# Altium footprint library MyLibrary.PcbLib: 5 footprints
Each footprint in its own frame and in the unit in brackets; x right, y up, seen from the top. Pads: shape width x height; smd on the part's side, far side on the other; paste and mask are expansions set on the pad; w line width, h text height; cw(c..) or ccw(c..) is an arc to the next point about the centre after c.
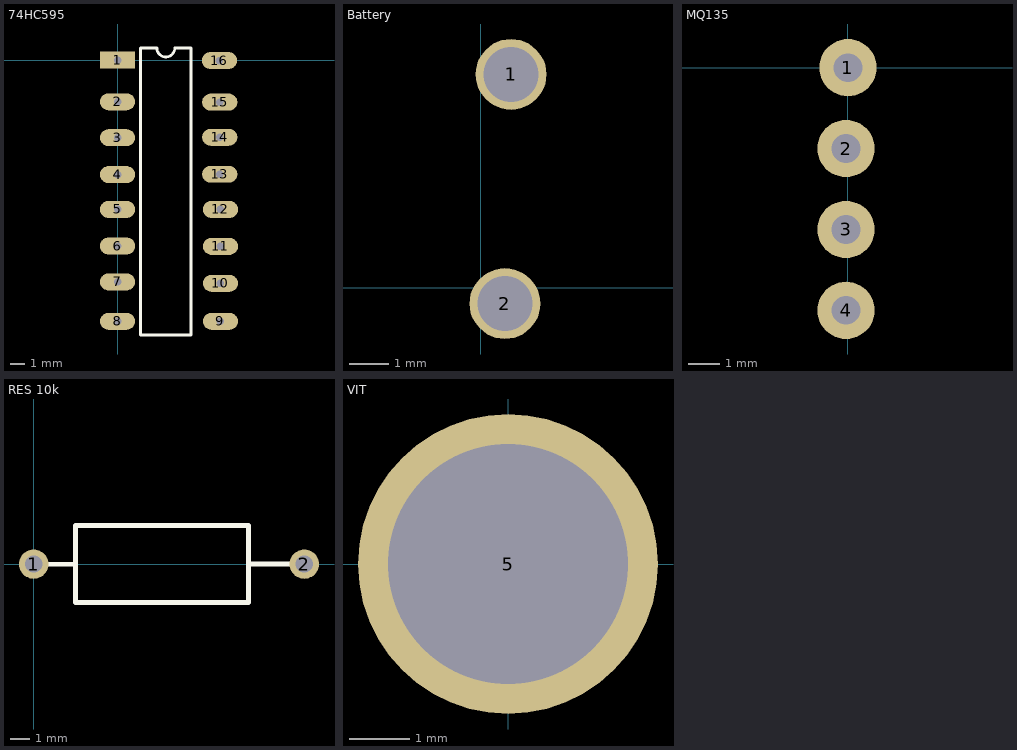
[diagram p0: the footprints below, top view; thin cyan lines are the x and y axes]

## 74HC595 [mm]
pads (16):
  rect 2.5x1.2 hole 0.53: 1(0,0)
  oval 2.5x1.2 hole 0.53: 2(0,-2.946) 3(0,-5.486) 4(0,-8.103) 5(0,-10.566) 6(0,-13.157) 7(0,-15.697) 8(0,-18.491) 9(7.29,-18.491) 10(7.29,-15.799) 11(7.29,-13.183) 12(7.29,-10.566) 13(7.239,-8.077) 14(7.239,-5.461) 15(7.239,-2.972) 16(7.214,-0.025)
Top Overlay:
  lines w0.2: 1.635,-19.456 5.205,-19.456 5.205,0.864 4.055,0.864 cw(c3.42,0.864) 2.785,0.864 1.635,0.864 1.635,-19.456
3D body "74hc595.stp": height 0.67, standoff -4.93, extent -0.176,-18.752 7.324,0.248

## Battery [mm]
pads (2):
  round 1.8 hole 1.4: 1(0.762,5.41) 2(0.61,-0.406)
3D body "batteryCase18650x3.step": height 83.9, standoff 0.2, extent -15.494,-38.169 4.806,23.331

## MQ135 [mm]
pads (4):
  round 1.8 hole 0.9: 1(0,0) 2(-0.06,-2.54) 3(-0.06,-5.08) 4(-0.06,-7.62)
3D body "MQ135_MH_sensor_with_socket_pins_90grd.STEP": height 39.86, standoff -0.5, extent -18,-14.3 5,6.7

## RES 10k [mil]
pads (2):
  round 60 hole 35: 1(0,0) 2(552,0)
Top Overlay:
  lines w10: 0.07,-0.18 85.07,-0.18 ; 438.26,0 552,0 ; 85,-78.48 438,-78.48 438,79 85,79 85,-78.48
3D body "RES-1W.STEP": height 278.06, standoff 2.47, extent -21.21,-79.48 561.46,78

## VIT [mm]
pads (1):
  round 5 hole 4: 5(0,0)